# Altium schematic symbol library alex_capacity.SchLib: 86 symbols
Pins are listed as number, name and electrical type; pins without a type are passive.

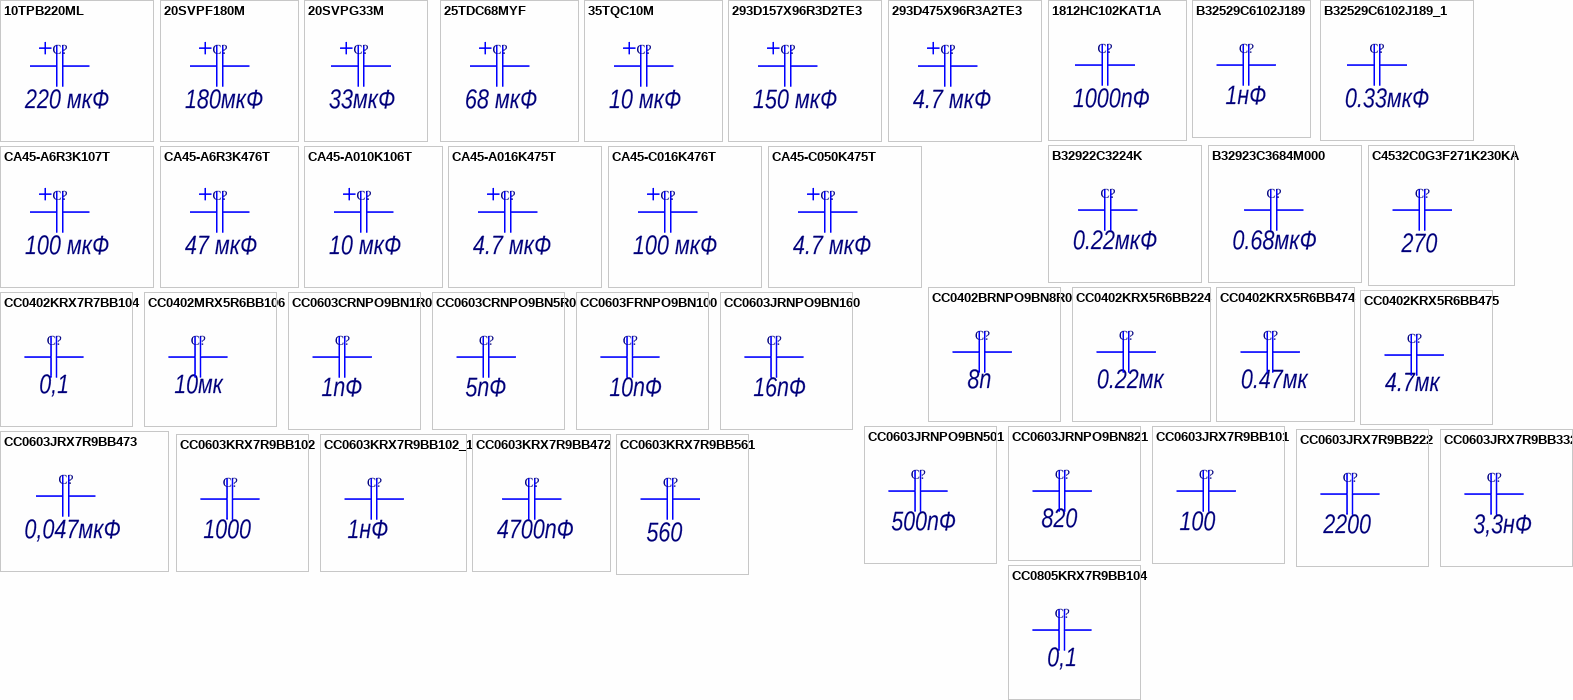
[diagram p0: symbols 10TPB220ML to CC0805KRX7R9BB104]

## 10TPB220ML
designator C?, comment value 220 мкФ  (hidden comment: Конденсатор танталовый 10 В, 220 мкФ ±20%, корпус D3L, -55...105 °C 10TPB220ML «Panasonic»)
footprint cap tantal SMD-D3L
pins: 1 +, 2 -

## 20SVPF180M
designator C?, comment value 180мкФ  (hidden comment: Конденсатор электролитический алюминиевый 180мкФ 16В SMD 6,3х16,0  -55...105°20SVPF180M «Panasonic»)
footprint CAP 8*6.9 (Aluminum Electrolytic Capacitor SMD 8*6.9)
pins: 1 +, 2 -

## 20SVPG33M
designator C?, comment value 33мкФ  (hidden comment: Конденсатор электролитический алюминиевый 33мкФ 20В ±20%, SMD 5.0х4.4, -55...105 °C, 5000ч 20SVPG33M «Panasonic»)
footprint CAPAE 4 5
pins: 1 +, 2 -

## 25TDC68MYF
designator C?, comment value 68 мкФ  (hidden comment: Конденсатор танталовый 68мкФ 25В ESR 70 мОм SMD-D3L -55...125°C 25TDC68MYF «Panasonic»)
footprint cap tantal SMD-D3L
pins: 1 +, 2 -

## 35TQC10M
designator C?, comment value 10 мкФ  (hidden comment: Конденсатор танталовый 10мкФ 35В ESR 0.12 мОм SMD-D -55...125°C 35TQC10M «Panasonic»)
footprint cap tantal SMD-D
pins: 1 +, 2 -

## 293D157X96R3D2TE3
designator C?, comment value 150 мкФ  (hidden comment: Конденсатор танталовый 150мкФ 6,3В SMD-D -55...125°C 293D157X96R3D2TE3 «Vishay»)
footprint cap tantal SMD-D
pins: 1 +, 2 -

## 293D475X96R3A2TE3
designator C?, comment value 4.7 мкФ  (hidden comment: Конденсатор танталовый 4,7мкФ 6,3В SMD-А -55...125°C 293D475X96R3A2TE3 «Vishay»)
footprint CAP тантал  корпус А
pins: 1 +, 2 -

## 1812HC102KAT1A
designator C?, comment value 1000пФ  (hidden comment: Конденсатор керамический 1000пФ ±10% 3кВ X7RВ 1812HC102KAT1A 1812 -55...125°C "AVX Co")
footprint SMD 1812
pins: 1 g, 2

## B32529C6102J189
designator C?, comment value 1нФ  (hidden comment: Конденсатор плёночный 400 В, 1 нФ ±10%, B32529C6102J189 -40...85°C "TDK-Epcos")
footprint C пленочный L=5мм
pins: 1 g, 2

## B32529C6102J189_1
designator C?, comment value 0.33мкФ  (hidden comment: Конденсатор плёночный 63В, 0.33мкФ ±5%, B32529C0334J000 -40...85°C "TDK-Epcos")
footprint C пленочный L=5мм
pins: 1 g, 2

## B32922C3224K
designator C?, comment value 0.22мкФ  (hidden comment: Конденсатор плёночный 630 В, 0.22 мкФ ±10%, Polypropylene (PP), B32922C3224K -40...85°C "TDK-Epcos")
footprint C пленочный L=15мм
pins: 1 g, 2

## B32923C3684M000
designator C?  value 0.68мкФ
Конденсатор плёночный 630 В, 0.68 мкФ ±10%, Polypropylene (PP), B32923C3684M000 -40...85°C "TDK-Epcos"
footprint C пленочный L=22/5мм
pins: 1 g, 2

## C4532C0G3F271K230KA
designator C?, comment value 270  (hidden comment: Конденсатор керамический 270пФ ±10% 3кВ SMD 1812 C4532C0G3F271K230KA -50...155°C "TDK")
footprint SMD 1812 inch
pins: 1 g, 2

## CA45-A6R3K107T
designator C?, comment value 100 мкФ  (hidden comment: Конденсатор танталовый 100мкФ 6,3В SMD-А -55...125°C CA45-A6R3K107T «Xiangyee»)
footprint CAP тантал  корпус А
pins: 1 +, 2 -

## CA45-A6R3K476T
designator C?, comment value 47 мкФ  (hidden comment: Конденсатор танталовый 47мкФ 6В SMD-C -55...125°C CA45-A6R3K476T «Xiangyee»)
footprint CAP тантал  корпус А
pins: 1 +, 2 -

## CA45-A010K106T
designator C?, comment value 10 мкФ  (hidden comment: Конденсатор танталовый 10мкФ 10 SMD-А -55...125°C CA45-A010K106T «Xiangyee»)
footprint CAP тантал  корпус А
pins: 1 +, 2 -

## CA45-A016K475T
designator C?, comment value 4.7 мкФ  (hidden comment: Конденсатор танталовый 4.7мкФ 16В SMD-А -55...125°C CA45-A016K475T «Xiangyee»)
footprint CAP тантал  корпус А
pins: 1 +, 2 -

## CA45-C016K476T
designator C?, comment value 100 мкФ  (hidden comment: Конденсатор танталовый 100мкФ 16В SMD-C -55...125°C CA45-C016K476T «Xiangyee»)
footprint SMD-C
pins: 1 +, 2 -

## CA45-C050K475T
designator C?, comment value 4.7 мкФ  (hidden comment: Конденсатор танталовый 4.7мкФ 50В SMD-C -55...125°C CA45-C050K475T «Xiangyee»)
footprint SMD-C
pins: 1 +, 2 -

## CC0402BRNPO9BN8R0
designator C?, comment value 8п  (hidden comment: Конденсатор керамический 8пФх50В C0G(NP0) CC0402BRNPO9BN8R0 -55...85°C SMD-0402 «Yageo»)
footprint C0402 (1005M)
pins: 1 g, 2

## CC0402KRX5R6BB224
designator C?, comment value 0.22мк  (hidden comment: Конденсатор керамический 0.22мкФх10В±10% X5R -55...85°C SMD-0402 CC0402KRX5R6BB224 «Yageo»)
footprint C0402 (1005M)
pins: 1 g, 2

## CC0402KRX5R6BB474
designator C?, comment value 0.47мк  (hidden comment: Конденсатор керамический 0.47мкФх10В±10% X5R -55...85°C SMD-0402 CC0402KRX5R6BB474 «Yageo»)
footprint C0402 (1005M)
pins: 1 g, 2

## CC0402KRX5R6BB475
designator C?, comment value 4.7мк  (hidden comment: Конденсатор керамический 4.7мкФх10В±10% X5R -55...85°C SMD-0402 CC0402KRX5R6BB475 «Yageo»)
footprint C0402 (1005M)
pins: 1 g, 2

## CC0402KRX7R7BB104
designator C?, comment value 0,1  (hidden comment: Конденсатор керамический 0.1мкФх16В SMD 0402 CC0402KRX7R7BB104 «Yageo»)
footprint C0402 (1005M)
pins: 1 g, 2

## CC0402MRX5R6BB106
designator C?, comment value 10мк  (hidden comment: Конденсатор керамический 10мкФх10В±20% X5R -55...85°C SMD-0402 CC0402MRX5R6BB106 «Yageo»)
footprint C0402 (1005M)
pins: 1 g, 2

## CC0603CRNPO9BN1R0
designator C?, comment value 1пФ  (hidden comment: Конденсатор керамический 1пФ 50В CC0603CRNPO9BN1R0 0603 -55...125°C "Yageo")
footprint C0603 (1608M)
pins: 1 g, 2

## CC0603CRNPO9BN5R0
designator C?, comment value 5пФ  (hidden comment: Конденсатор керамический 5пФ 50В CC0603CRNPO9BN5R0 0603 -55...125°C "Yageo")
footprint C0603 (1608M)
pins: 1 g, 2

## CC0603FRNPO9BN100
designator C?, comment value 10пФ  (hidden comment: Конденсатор керамический 10пФ 50В CC0603FRNPO9BN100 0603 -55...125°C "Yageo")
footprint C0603 (1608M)
pins: 1 g, 2

## CC0603JRNPO9BN160
designator C?, comment value 16пФ  (hidden comment: Конденсатор керамический 16пФ 50В CC0603JRNPO9BN160 0603 -55...125°C "Yageo")
footprint C0603 (1608M)
pins: 1 g, 2

## CC0603JRNPO9BN501
designator C?, comment value 500пФ  (hidden comment: Конденсатор керамический 500пФ 50В CC0603JRNPO9BN501 0603 -55...125°C "Yageo")
footprint C0603 (1608M)
pins: 1 g, 2

## CC0603JRNPO9BN821
designator C?, comment value 820  (hidden comment: Конденсатор керамический 820 пФ х 50 В SMD 0603 CC0603JRNPO9BN821 «Yageo»)
footprint C0603 (1608M)
pins: 1 g, 2

## CC0603JRX7R9BB101
designator C?, comment value 100  (hidden comment: Конденсатор керамический 100пФ 50В CC0603JRX7R9BB101 0603 -55...125°C "Yageo")
footprint C0603 (1608M)
pins: 1 g, 2

## CC0603JRX7R9BB222
designator C?, comment value 2200  (hidden comment: Конденсатор керамический 2200пФ 50В CC0603JRX7R9BB222 0603 -55...125°C "Yageo")
footprint C0603 (1608M)
pins: 1 g, 2

## CC0603JRX7R9BB332
designator C?, comment value 3,3нФ  (hidden comment: Конденсатор керамический 3.3нФ 50В CC0603JRX7R9BB332 0603 -55...125°C "Yageo")
footprint C0603 (1608M)
pins: 1 g, 2

## CC0603JRX7R9BB473
designator C?, comment value 0,047мкФ  (hidden comment: Конденсатор керамический 0.047мкФ 50В CC0603JRX7R9BB473 0603 -55...125°C "Yageo")
footprint C0603 (1608M)
pins: 1 g, 2

## CC0603KRX7R9BB102
designator C?, comment value 1000  (hidden comment: Конденсатор керамический 1000пФ 50В CC0603KRX7R9BB102 0603 -55...125°C "Yageo")
footprint C0603 (1608M)
pins: 1 g, 2

## CC0603KRX7R9BB102_1
designator C?, comment value 1нФ  (hidden comment: Конденсатор керамический 1нФ 50В CC0603KRX7R9BB102 0603 -55...125°C "Yageo")
footprint C0603 (1608M)
pins: 1 g, 2

## CC0603KRX7R9BB472
designator C?, comment value 4700пФ  (hidden comment: Конденсатор керамический 4700пФ 50В CC0603KRX7R9BB472 0603 -55...125°C "Yageo")
footprint C0603 (1608M)
pins: 1 g, 2

## CC0603KRX7R9BB561
designator C?, comment value 560  (hidden comment: Конденсатор керамический 560пФ 50В X7R CC0603KRX7R9BB561 0603 -55...125°C "Yageo")
footprint C0603 (1608M)
pins: 1 g, 2

## CC0805KRX7R9BB104
designator C?, comment value 0,1  (hidden comment: Конденсатор керамический 0.1мкФх50В SMD 0805 CC0805KRX7R9BB104 «Yageo»)
footprint C0805 (2012M)
pins: 1 g, 2

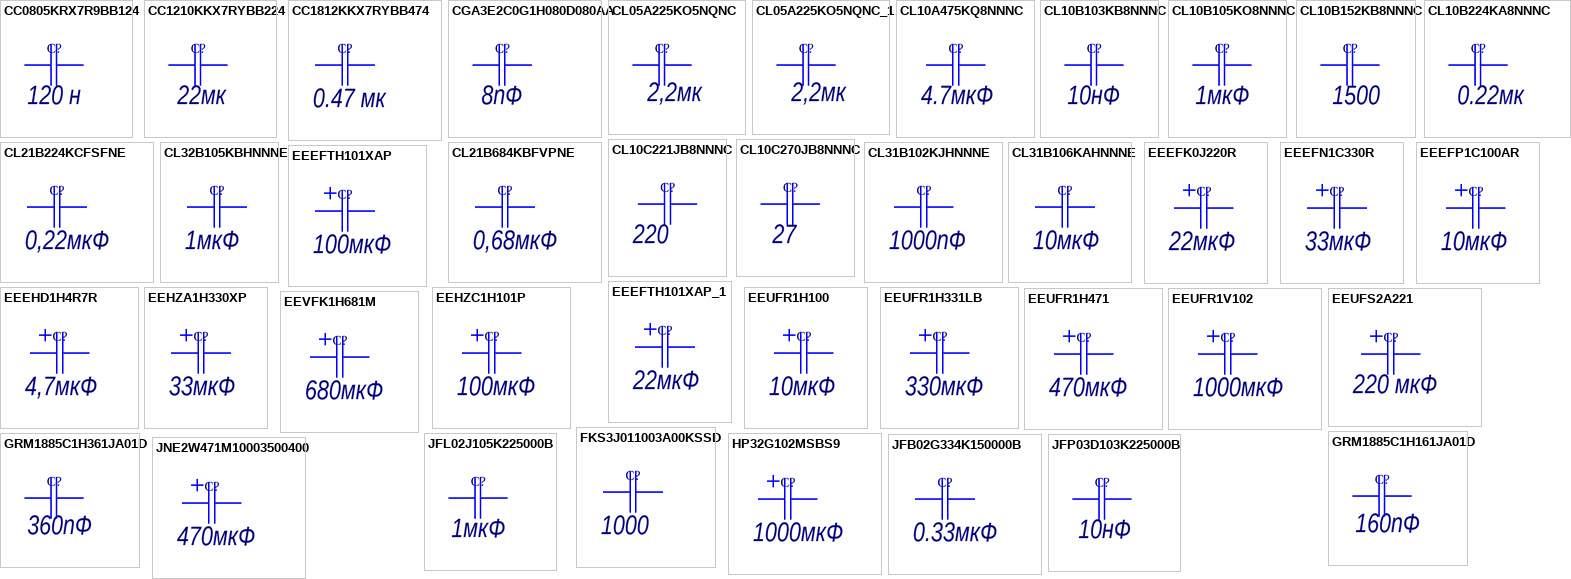
[diagram p1: symbols CC0805KRX7R9BB124 to JNE2W471M10003500400]

## CC0805KRX7R9BB124
designator C?, comment value 120 н  (hidden comment: Конденсатор керамический 120 нФ 50В CC0805KRX7R9BB124 0805 -55...125°C "Yageo")
footprint C0805 (2012M)
pins: 1 g, 2

## CC1210KKX7RYBB224
designator C?, comment value 22мк  (hidden comment: Конденсатор керамический 22mкФ 250В CC1210KKX7RYBB224 1210 -55...125°C "Yageo")
footprint C1210 (3225M)
pins: 1 g, 2

## CC1812KKX7RYBB474
designator C?, comment value 0.47 мк  (hidden comment: Конденсатор керамический 0.47 мкФ х 250 В 10% SMD 1812 CC1812KKX7RYBB474 «Yageo»)
footprint SMD 1812 Cap
pins: 1 g, 2

## CGA3E2C0G1H080D080AA
designator C?, comment value 8пФ  (hidden comment: Конденсатор керамический 8пФ 50В CGA3E2C0G1H080D080AA 0603 -55...125°C "TDK")
footprint C0603 (1608M)
pins: 1 g, 2

## CL05A225KO5NQNC
designator C?, comment value 2,2мк  (hidden comment: Конденсатор керамический 2.2мкФх16В X5R 10% SMD 0402 CL05A225KO5NQNC «Samsung»)
footprint C0402 (1005M)
pins: 1 g, 2

## CL05A225KO5NQNC_1
designator C?, comment value 2,2мк  (hidden comment: Конденсатор керамический 2.2мкФх16В X5R 10% SMD 0402 CL05A225KO5NQNC «Samsung»)
footprint C0402 (1005M)
pins: 1 g, 2

## CL10A475KQ8NNNC
designator C?, comment value 4.7мкФ  (hidden comment: Конденсатор керамический 4.7мкФ 50В CL10A475KQ8NNNC 0603 -55...125°C "Samsung")
footprint C0603 (1608M)
pins: 1 g, 2

## CL10B103KB8NNNC
designator C?, comment value 10нФ  (hidden comment: Конденсатор керамический 10нФ 50В CL10B103KB8NNNC 0603 -55...125°C "Samsung")
footprint C0603 (1608M)
pins: 1 g, 2

## CL10B105KO8NNNC
designator C?, comment value 1мкФ  (hidden comment: Конденсатор керамический 1мкФ 50В CL10B105KO8NNNC 0603 -55...125°C "Samsung")
footprint C0603 (1608M)
pins: 1 g, 2

## CL10B152KB8NNNC
designator C?, comment value 1500  (hidden comment: Конденсатор керамический 1500пФ 50В CL10B152KB8NNNC 0603 -55...125°C "Samsung")
footprint C0603 (1608M)
pins: 1 g, 2

## CL10B224KA8NNNC
designator C?, comment value 0.22мк  (hidden comment: Конденсатор 0,22мкФ 25В 0603  CL10B224KA8NNNC)
Конденсатор керамический 0,22mкФ 25В 0603 CL10B224KA8NNNC  -55...125°C "Samsung"
footprint C0603 (1608M)
pins: 1 g, 2

## CL10C221JB8NNNC
designator C?, comment value 220  (hidden comment: Конденсатор керамический 220пФ 50В CL10C221JB8NNNC 0603 -55...125°C "Samsung")
footprint C0603 (1608M)
pins: 1 g, 2

## CL10C270JB8NNNC
designator C?, comment value 27  (hidden comment: Конденсатор керамический 27пФ 50В CL10C270JB8NNNC 0603 -55...125°C "Samsung")
footprint C0603 (1608M)
pins: 1 g, 2

## CL21B224KCFSFNE
designator C?, comment value 0,22мкФ  (hidden comment: Конденсатор керамический 0,22 мкФ ±10% 100В X7R CL21B224KCFSFNE 0805 -55...125°C "Samsung")
footprint C0805 (2012M)
pins: 1 g, 2

## CL21B684KBFVPNE
designator C?, comment value 0,68мкФ  (hidden comment: Конденсатор керамический 0,68 мкФ ±10% 50В X7R CL21B684KBFVPNE 0805 -55...125°C "Samsung")
footprint C0805 (2012M)
pins: 1 g, 2

## CL31B102KJHNNNE
designator C?, comment value 1000пФ  (hidden comment: Конденсатор керамический 2 кВ, 1000 пФ ±10%, X7R, 1206, -55...125 °C «Samsung»)
footprint C1206 (3216M)
pins: 1 +, 2 -

## CL31B106KAHNNNE
designator C?, comment value 10мкФ  (hidden comment: Конденсатор керамический 10 мкФ ±10% 25В X7R 1206 CL31B106KAHNNNE  -55...125°C "Samsung")
footprint C1206 (3216M)
pins: 1 g, 2

## CL32B105KBHNNNE
designator C?, comment value 1мкФ  (hidden comment: Конденсатор керамический 1 мкФ ±10% 50В X7R CL32B105KBHNNNE 1206 -55...125°C "Samsung")
footprint C1206 (3216M)
pins: 1 g, 2

## EEEFK0J220R
designator C?, comment value 22мкФ  (hidden comment: Конденсатор электролитический алюминиевый 22мкФ 6,3В SMD 10,0х10,2 -55...105°C EEEFK0J220R «Panasonic»)
footprint CAP 10*10 (Aluminum Electrolytic Capacitor, Body 10,30x10,30x10,30mm, IPC Low Density)
pins: 1 +, 2 -

## EEEFN1C330R
designator C?, comment value 33мкФ  (hidden comment: Конденсатор электролитический алюминиевый 33мкФ 16В ±20%, SMD 4.0х5.8, -55...105 °C, 2000ч EEEFN1C330R «Panasonic»)
footprint CAP SMD type B
pins: 1 +, 2 -

## EEEFP1C100AR
designator C?, comment value 10мкФ  (hidden comment: Конденсатор электролитический алюминиевый 10мкФ 16В SMD 4х5,8  -55...105°C EEEFP1C100AR «Panasonic»)
footprint CAPAE 4 5
pins: 1 +, 2 -

## EEEFTH101XAP
designator C?, comment value 100мкФ  (hidden comment: Конденсатор электролитический алюминиевый 100 мкФ ±20%, 50 В  SMD 6.3*7.7мм, -55...105 °C, 2000 ч EEEFTH101XAP «Panasonic»)
footprint CAP  6.3*7.7
pins: 1 +, 2 -

## EEEFTH101XAP_1
designator C?, comment value 22мкФ  (hidden comment: Конденсатор электролитический алюминиевый 22 мкФ ±20%, 35В SMD 6,3*5,4, -40...85 °C, 2000 ч EEEFTH101XAP «Panasonic»)
footprint CAP 6.3*5.4
pins: 1 +, 2 -

## EEEHD1H4R7R
designator C?, comment value 4,7мкФ  (hidden comment: Конденсатор электролитический алюминиевый 4.7мкФ 50В SMD type C  -55...105°C 5000 часов EEEHD1H4R7R «Panasonic»)
footprint CAP SMD TYPE C
pins: 1 +, 2 -

## EEHZA1H330XP
designator C?, comment value 33мкФ  (hidden comment: Конденсатор электролитический алюминиевый 33мкФ 50В ±20%, SMD 5.0х11.0, -55...105 °C, 10000ч EEHZA1H330XP «Panasonic»)
footprint CAP SMD type D
pins: 1 +, 2 -

## EEHZC1H101P
designator C?, comment value 100мкФ  (hidden comment: Конденсатор электролитический алюминиевый 100мкФ 50В SMD 10,0 х10,2 EEHZC1H101P «Panasonic»)
footprint CAP 10*10 (Aluminum Electrolytic Capacitor, Body 10,30x10,30x10,30mm, IPC Low Density)
pins: 1 +, 2 -

## EEUFR1H100
designator C?, comment value 10мкФ  (hidden comment: Конденсатор электролитический алюминиевый 10мкФ 50В SMD 5х11  -55...105°C EEUFR1H100 «Panasonic»)
footprint Capacitor d5 axial
pins: 1 +, 2 -

## EEUFR1H331LB
designator C?, comment value 330мкФ  (hidden comment: Конденсатор электролитический алюминиевый 330мкФ 50В 10000 часов AXIAL 10,0х25 -55...105°C EEUFR1H331LB «Panasonic»)
footprint CAP AXIAL 10*25
pins: 1 +, 2 -

## EEUFR1H471
designator C?, comment value 470мкФ  (hidden comment: Конденсатор электролитический алюминиевый AXIAL low ESR 470 мкФ 50В 12.5мм*20.0мм  -40...105°C EEUFR1H471 «Panasonic»)
footprint CAP 12.5 AXIAL step5mm
pins: 1 +, 2 -

## EEUFR1V102
designator C?, comment value 1000мкФ  (hidden comment: Конденсатор электролитический алюминиевый 1000 мкФ 35В DIP 12,5х20  -40...105°C EEUFR1V102 «Panasonic»)
footprint C электр радиальн д12.5
pins: 1 +, 2 -

## EEUFS2A221
designator C?, comment value 220 мкФ  (hidden comment: Конденсатор электролитический алюминиевый 220 мкФ ±20%, 100 В  выводной -40...105 °C, 10000 ч EEUFS2A221 «Panasonic»)
footprint CAP AXIAL 12,5*25
pins: 1 +, 2 -

## EEVFK1H681M
designator C?, comment value 680мкФ  (hidden comment: Конденсатор электролитический алюминиевый 680мкФ 50В ±20%, SMD 16х16.5, -55...105 °C, 1000ч EEVFK1H681M «Panasonic»)
footprint CAPAE 16 16
pins: 1 +, 2 -

## FKS3J011003A00KSSD
designator C?, comment value 1000  (hidden comment: Конденсатор плёночный 1000 пФ ±10%, 600В DIP FKS3J011003A00KSSD  -55...105°C "WIMA GROUP")
footprint FKS3J
pins: 1 g, 2

## GRM1885C1H161JA01D
designator C?, comment value 160пФ  (hidden comment: Конденсатор керамический 160пФх50В SMD 0603 GRM1885C1H161JA01D «Murata»)
footprint C0603 (1608M)
pins: 1 g, 2

## GRM1885C1H361JA01D
designator C?, comment value 360пФ  (hidden comment: Конденсатор керамический 360пФх50В SMD 0603 NP0 GRM1885C1H361JA01D «Murata»)
footprint C0603 (1608M)
pins: 1 g, 2

## HP32G102MSBS9
designator C?, comment value 1000мкФ  (hidden comment: Конденсатор электролитический алюминиевый 1000 мкФ 40035В DIP 40х61  -40...105°C HP32G102MSBS9 «Hitachi AIC»)
pins: 1 +, 2 -

## JFB02G334K150000B
designator C?, comment value 0.33мкФ  (hidden comment: Конденсатор плёночный 0.33мкФ ±5%, 400В JFB02G334K150000B AXIS-15мм -40...85°C "JB Capacitors Company")
footprint C пленочный L=15мм LOW
pins: 1 g, 2

## JFL02J105K225000B
designator C?, comment value 1мкФ  (hidden comment: Конденсатор плёночный 630 В, 1 мкФ ±10%, Polypropylene (PP), JFL02J105K225000B -40...85°C "JB Capacitors Company")
footprint C пленочный L=15мм
pins: 1 g, 2

## JFP03D103K225000B
designator C?, comment value 10нФ  (hidden comment: Конденсатор плёночный 2 кВ, 0.01 мкФ ±10%, Polypropylene (PP) JFP03D103K225000B -40...85 °C "JB Capacitors Company")
footprint C пленочный L=15мм
pins: 1 g, 2

## JNE2W471M10003500400
designator C?, comment value 470мкФ  (hidden comment: Конденсатор электролитический алюминиевый 470мкФ 450В ±20%, AXIAL 35[40мм ,-20...105 °C, 2000ч JNE2W471M10003500400 «JB Capacitors Company»)
footprint CAP AXIAL 35x40
pins: 1 +, 2 -

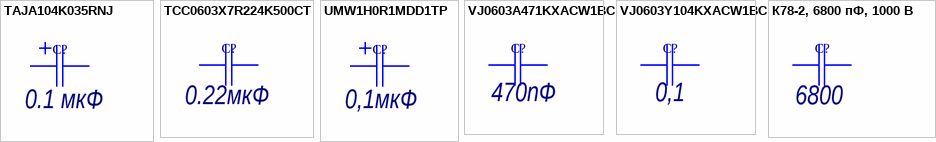
[diagram p2: symbols TAJA104K035RNJ to К78-2, 6800 пФ, 1000 В]

## TAJA104K035RNJ
designator C?, comment value 0.1 мкФ  (hidden comment: Конденсатор танталовый 0,1мкФ 35В SMD-А -55...125°C TAJA104K035RNJ «AVX»)
footprint CAP тантал  корпус А
pins: 1 +, 2 -

## TCC0603X7R224K500CT
designator C?, comment value 0.22мкФ  (hidden comment: Конденсатор керамический 0.22 мкФ ±10%, X7R 50В TCC0603X7R224K500CT 0603 -55...125°C "CCTC")
footprint C0603 (1608M)
pins: 1 g, 2

## UMW1H0R1MDD1TP
designator C?, comment value 0,1мкФ  (hidden comment: Конденсатор электролитический алюминиевый 0.1мкФх50В ±20%, SMD 4.0х5.0, -40...85°C, 1000ч UMW1H0R1MDD1TP «Nichicon»)
footprint CAPAE 4 5
pins: 1 +, 2 -

## VJ0603A471KXACW1BC
designator C?, comment value 470пФ  (hidden comment: Конденсатор керамический 470пФх50В SMD 0603 VJ0603A471KXACW1BC «Vishay»)
footprint C0603 (1608M)
pins: 1 g, 2

## VJ0603Y104KXACW1BC
designator C?, comment value 0,1  (hidden comment: Конденсатор керамический 0.1мкФх50В SMD 0603 VJ0603Y104KXACW1BC «Vishay»)
footprint C0603 (1608M)
pins: 1 g, 2

## К78-2, 6800 пФ, 1000 В
designator C?, comment value 6800  (hidden comment: Конденсатор плёночный 1000 В, 6800 пФ ±10%, К78-2)
footprint C пленочный L=20ММ
pins: 1 g, 2